# Altium schematic symbol library Resistor.SchLib: 1 symbol
Pins are listed as number, name and electrical type; pins without a type are passive.

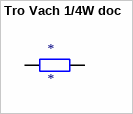
[diagram p0: symbol Tro Vach 1/4W doc]

## Tro Vach 1/4W doc
designator *
footprint Tro Vach 1/4W doc
pins: 1, 2